# Altium schematic symbol library Module1.SchLib: 68 symbols
Pins are listed as number, name and electrical type; pins without a type are passive.

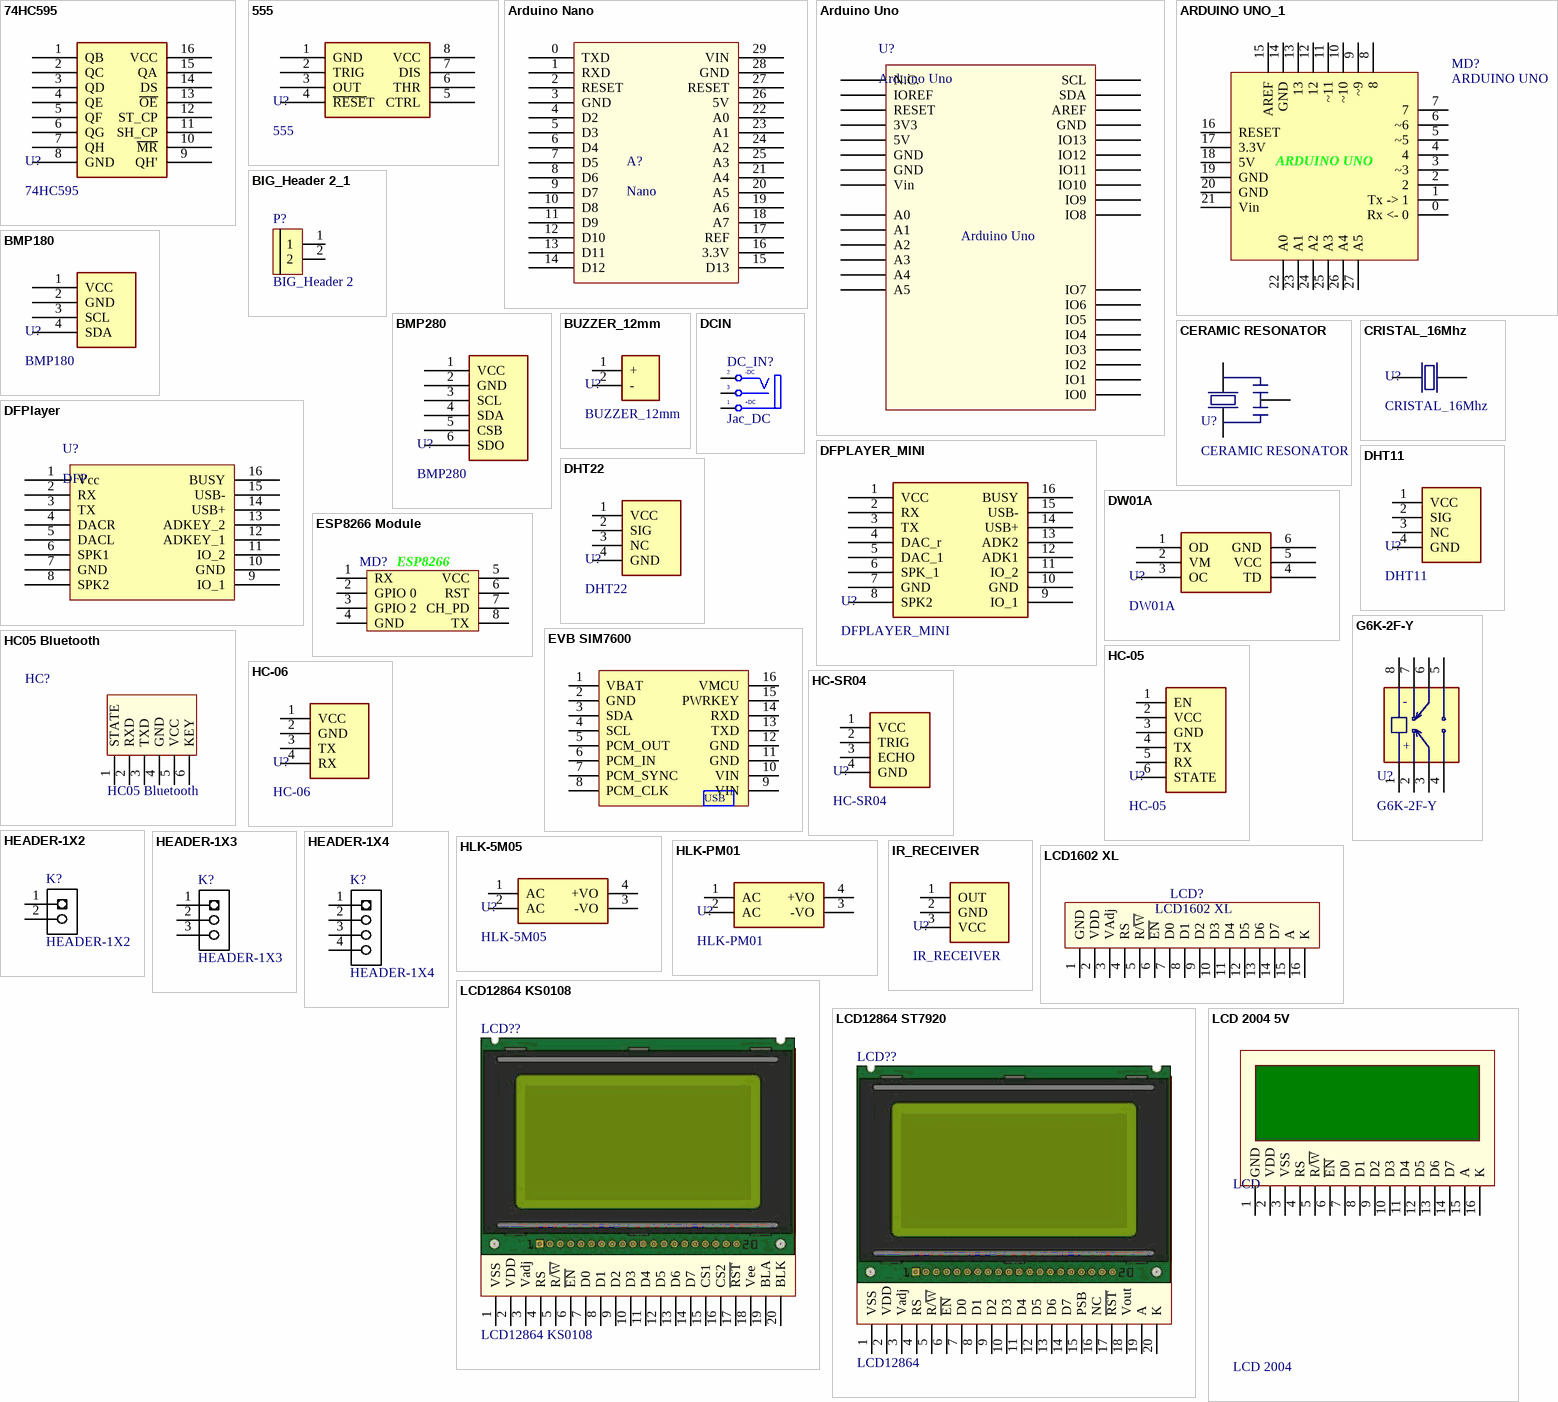
[diagram p0: symbols 74HC595 to LCD 2004 5V]

## 74HC595
designator U?
SHIFT REGISTER 8-BIT DIP-16; ComponentLink1Description: Datasheet; ComponentLink1URL: https://www.ti.com/lit/ds/symlink/sn74hc595.pdf?ts=1673556046554&ref_url=https%253A%252F%252Fwww.ti.com%252Fproduct%252FSN74HC595; JLCPCB PN: C110383
footprint 74HC595 (SHIFT REGISTER 8-BIT DIP-16)
pins: 1 QB, 2 QC, 3 QD, 4 QE, 5 QF, 6 QG, 7 QH, 8 GND, 9 QH', 10 ~{MR}, 11 SH_CP, 12 ST_CP, 13 ~{OE}, 14 DS, 15 QA, 16 VCC

## 555
designator U?
CI TIMER/OSCILATOR 100kHz; ComponentLink1Description: Datasheet; ComponentLink1URL: https://www.ti.com/lit/ds/symlink/ne555.pdf?HQS=dis-mous-null-mousermode-dsf-pf-null-wwe&ts=1678668318661&ref_url=https%253A%252F%252Fwww.mouser.com%252F; JLCPCB PN SMD: C181735; JLCPCB PN DIP: C398063
footprint NE555_PTH
footprint NE555_SMD
pins: 1 GND, 2 TRIG, 3 OUT, 4 ~{RESE}T, 5 CTRL, 6 THR, 7 DIS, 8 VCC

## Arduino Nano
designator A?, comment Nano
footprint Arduino nano (arduino nano)
pins: 0 TXD, 1 RXD, 2 RESET, 3 GND, 4 D2, 5 D3, 6 D4, 7 D5, 8 D6, 9 D7, 10 D8, 11 D9, 12 D10, 13 D11, 14 D12, 15 D13, 16 3.3V, 17 REF, 18 A7, 19 A6, 20 A5, 21 A4, 22 A0, 23 A1, 24 A2, 25 A3, 26 5V, 27 RESET, 28 GND, 29 VIN

## Arduino Uno
designator U?
footprint Arduino Uno
footprint Arduino Uno Shield
pins: 0 IO0, 1 IO1, 2 IO2, 3 IO3, 3V3, 4 IO4, 5 IO5, 5V, 6 IO6, 7 IO7, 8 IO8, 9 IO9, 10 IO10, 11 IO11, 12 IO12, 13 IO13, A0, A1, A2, A3, A4, A5, AREF, GND1 GND, GND2 GND, GND3 GND, IOREF, NC N.C., RESET, SCL, SDA, Vin

## ARDUINO UNO_1
designator MD?, comment ARDUINO UNO
footprint ARDUINO UNO - duplicate
pins: 0 Rx <- 0, 1 Tx -> 1, 2, 3 ~3, 4, 5 ~5, 6 ~6, 7, 8, 9 ~9, 10 ~10, 11 ~11, 12, 13, 14 GND, 15 AREF, 16 RESET, 17 3.3V, 18 5V, 19 GND, 20 GND, 21 Vin, 22 A0, 23 A1, 24 A2, 25 A3, 26 A4, 27 A5

## BIG_Header 2_1
designator P?, comment BIG_Header 2
footprint BIG_Header 2
pins: 1, 2

## BMP180
designator U?
SENSOR ATMOSPHERIC PRESSURE/TEMPERATURE
footprint BMP180
pins: 1 VCC, 2 GND, 3 SCL, 4 SDA

## BMP280
designator U?
SENSOR ATMOSPHERIC PRESSURE/TEMPERATURE/ALTITUDE
footprint BMP280 (SENSOR ATMOSPHERIC PRESSURE/TEMPERATURE/ALTITUDE)
pins: 1 VCC, 2 GND, 3 SCL, 4 SDA, 5 CSB, 6 SDO

## BUZZER_12mm
designator U?
BUZZER MAGNETIC 12MM; Digikey PN: 433-WT-1209T-ND; Mouser PN: 433-WT-1209T-ND; JLCPCB PN: C781866
footprint BUZZER_12mm (BUZZER MAGNETIC 12MM)
pins: 1 +, 2 -

## CERAMIC RESONATOR
designator U?
Generic Ceramic Ressonator 3.2x1.3mm
footprint CERAMIC_RESONATOR
pins: 1 (power), 2 (power), 3 (power)

## CRISTAL_16Mhz
designator U?
CRYSTAL 16MHZ, PTH and SMD; Mouser PN: 449-LFXTAL022786BULK; Digikey PN: 3155-16M20P2/49US-ND
footprint CRISTAL_16Mhz (CRYSTAL 16MHZ PTH)
footprint CRISTAL_16Mhz_SMD
pins: 1 (power), 2 (power)

## DCIN
designator DC_IN?, comment Jac_DC
footprint BGA56x10
pins: 1 T "Tip", 2 TN "Tip Normal (Break Contact)", 3 S (power) "Sleeve (Ground)"
text: -DC; +DC

## DFPlayer
designator U?, comment DFP
DFPlayer
footprint DFPlayer
pins: 1 Vcc, 2 RX, 3 TX, 4 DACR, 5 DACL, 6 SPK1, 7 GND, 8 SPK2, 9 IO_1, 10 GND, 11 IO_2, 12 ADKEY_1, 13 ADKEY_2, 14 USB+, 15 USB-, 16 BUSY

## DFPLAYER_MINI
designator U?
MP3 Module, 3W, 3.3-5V.
footprint DFPLAYER_MINI
pins: 1 VCC, 2 RX, 3 TX, 4 DAC_r, 5 DAC_1, 6 SPK_1, 7 GND, 8 SPK2, 9 IO_1, 10 GND, 11 IO_2, 12 ADK1, 13 ADK2, 14 USB+, 15 USB-, 16 BUSY

## DHT11
designator U?
SENSOR HUMIDITY/TEMPERATURE; Digikey PN: 1528-1228-ND
footprint DHT11 (SENSOR HUMIDITY/TEMPERATURE)
pins: 1 VCC, 2 SIG, 3 NC, 4 GND

## DHT22
designator U?
SENSOR HUMIDITY/TEMPERATURE; Digikey PN: 1528-1228-ND
footprint DHT22_180
footprint DHT22_90
pins: 1 VCC, 2 SIG, 3 NC, 4 GND

## DW01A
designator U?
BATTERY PROTECTION IC  SOT-23-6; ComponentLink1Description: Datasheet; ComponentLink1URL: https://datasheet.lcsc.com/szlcsc/1901091236_PUOLOP-DW01A_C351410.pdf; JLCPCB PN: C2927799
footprint DW01A (BATTERY PROTECTION IC)
pins: 1 OD, 2 VM, 3 OC, 4 TD, 5 VCC, 6 GND

## ESP8266 Module
designator MD?  (value not drawn)
footprint ESP2866 Module
pins: 1 RX, 2 GPIO 0, 3 GPIO 2, 4 GND, 5 VCC, 6 RST, 7 CH_PD, 8 TX
text: ESP8266

## EVB SIM7600
designator U?, comment EVB SIM7600 AHTLAB V100  (value not drawn)
Supplier 1: AHTLAB; Supplier Part Number 1: EVBSIM76XXV100
footprint EVB_SIM7600_AHT
footprint EVB_SIM7600_AHT_MIRROR
pins: 1 VBAT, 2 GND, 3 SDA, 4 SCL, 5 PCM_OUT, 6 PCM_IN, 7 PCM_SYNC, 8 PCM_CLK, 9 VIN, 10 VIN, 11 GND, 12 GND, 13 TXD, 14 RXD, 15 PWRKEY, 16 VMCU
text: USB

## G6K-2F-Y
designator U?
Micro Relé SMD Dual Channel, 5V/12V/24V, 6.5x10mm.
footprint G6K-2F-Y
pins: 1, 2, 3, 4, 5, 6, 7, 8
text: -; +

## HC05 Bluetooth
designator HC?
Bluetooth HC05; Value: Connector 6
footprint HC05 Bluethooth Dung (Connector; Header; 6 Position)
footprint HC05 Bluethooth Nam (Connector; Header; 6 Position)
pins: 1 STATE, 2 RXD, 3 TXD, 4 GND, 5 VCC, 6 KEY

## HC-05
designator U?
BLUETOOTH MODULE, 6 Pins
footprint HC-05 (BLUETOOTH MODULE)
pins: 1 EN, 2 VCC, 3 GND, 4 TX, 5 RX, 6 STATE

## HC-06
designator U?
BLUETOOTH MODULE, 4 Pins.
footprint HC-06 (BLUETOOTH MODULE)
pins: 1 VCC, 2 GND, 3 TX, 4 RX

## HC-SR04
designator U?
ULTRASONIC SENSOR 400CM; Digikey PN: 1568-1421-ND; Mouser PN: 375-HC-SR04
footprint HC-SR04 (ULTRASONIC SENSOR 400CM)
pins: 1 VCC, 2 TRIG, 3 ECHO, 4 GND

## HEADER-1X2
designator K?
REEL: TH; Supplier 1: Digi-Key; Supplier Part Number 1: S1011E-36-ND
footprint HEADER-1X2
pins: 1, 2

## HEADER-1X3
designator K?
Supplier 1: Digi-Key; Supplier Part Number 1: S1011E-36-ND
footprint HEADER-1X3
pins: 1, 2, 3

## HEADER-1X4
designator K?
Supplier 1: Digi-Key; Supplier Part Number 1: S1011E-36-ND
footprint HEADER-1X4
pins: 1, 2, 3, 4

## HLK-5M05
designator U?
Mini Switched Power Supply HLK-5M05 100~240V AC for 5V DC 1A.; JLCPCB: C209907
footprint HLK-5M05
pins: 1 AC, 2 AC, 3 -VO, 4 +VO

## HLK-PM01
designator U?
Mini Switched Power Supply HLK-PM01 100~240V AC for 5V DC 0.6A.; JLCPCB: C209903
footprint HLK-PM01
pins: 1 AC, 2 AC, 3 -VO, 4 +VO

## IR_RECEIVER
designator U?
INFRARED RECEIVER SENSOR; Digikey PN: 1528-157-ND; Mouser PN: 782-TSMP58138; JLCPCB PN: C131209
footprint IR_Receiver (INFRARED RECEIVER SENSOR)
pins: 1 OUT, 2 GND, 3 VCC

## LCD1602 XL
designator LCD?
LCD 1602 Xanh Lá; Ten: Màn hình LCD 1602 Xanh Lá; Ma_Hang: 67HZ; NCC: NSHOP; CHIP: HD44780
footprint LCD1602 with Jump (LCD dipslay 16x2, 16 pin)
footprint LCD1602 (LCD dipslay 16x2, 16 pin)
pins: 1 GND, 2 VDD, 3 VAdj, 4 RS, 5 R/~{W}, 6 ~{EN}, 7 D0, 8 D1, 9 D2, 10 D3, 11 D4, 12 D5, 13 D6, 14 D7, 15 A, 16 K

## LCD12864 KS0108
designator LCD??
LCD Graphic 128x64 KS0108; Value: LCD 128x64
footprint LCD128x64 (LCD Graphic 128x64, 20 pin)
pins: 1 VSS, 2 VDD, 3 Vadj, 4 RS, 5 R/~{W}, 6 ~{EN}, 7 D0, 8 D1, 9 D2, 10 D3, 11 D4, 12 D5, 13 D6, 14 D7, 15 CS1, 16 CS2, 17 ~{RST}, 18 Vee, 19 BLA, 20 BLK

## LCD12864 ST7920
designator LCD??, comment LCD12864
LCD Graphic 128x64 ST7920; Value: LCD 128x64
footprint LCD128x64 (LCD Graphic 128x64, 20 pin)
pins: 1 VSS, 2 VDD, 3 Vadj, 4 RS, 5 R/~{W}, 6 ~{EN}, 7 D0, 8 D1, 9 D2, 10 D3, 11 D4, 12 D5, 13 D6, 14 D7, 15 PSB, 16 NC, 17 ~{RST}, 18 Vout, 19 A, 20 K

## LCD 2004 5V
designator LCD, comment LCD 2004
LCD 2004 5V Xanh Dương; Ten: LCD 2004 Xanh Dương; Ma_Hang: WVEZ; CHIP: HD44780; Don Vi Mua: Nshop
footprint LCD 2004 (LCD dipslay 20x4, 16 pin)
pins: 1 GND, 2 VDD, 3 VSS, 4 RS, 5 R/~{W}, 6 ~{EN}, 7 D0, 8 D1, 9 D2, 10 D3, 11 D4, 12 D5, 13 D6, 14 D7, 15 A, 16 K

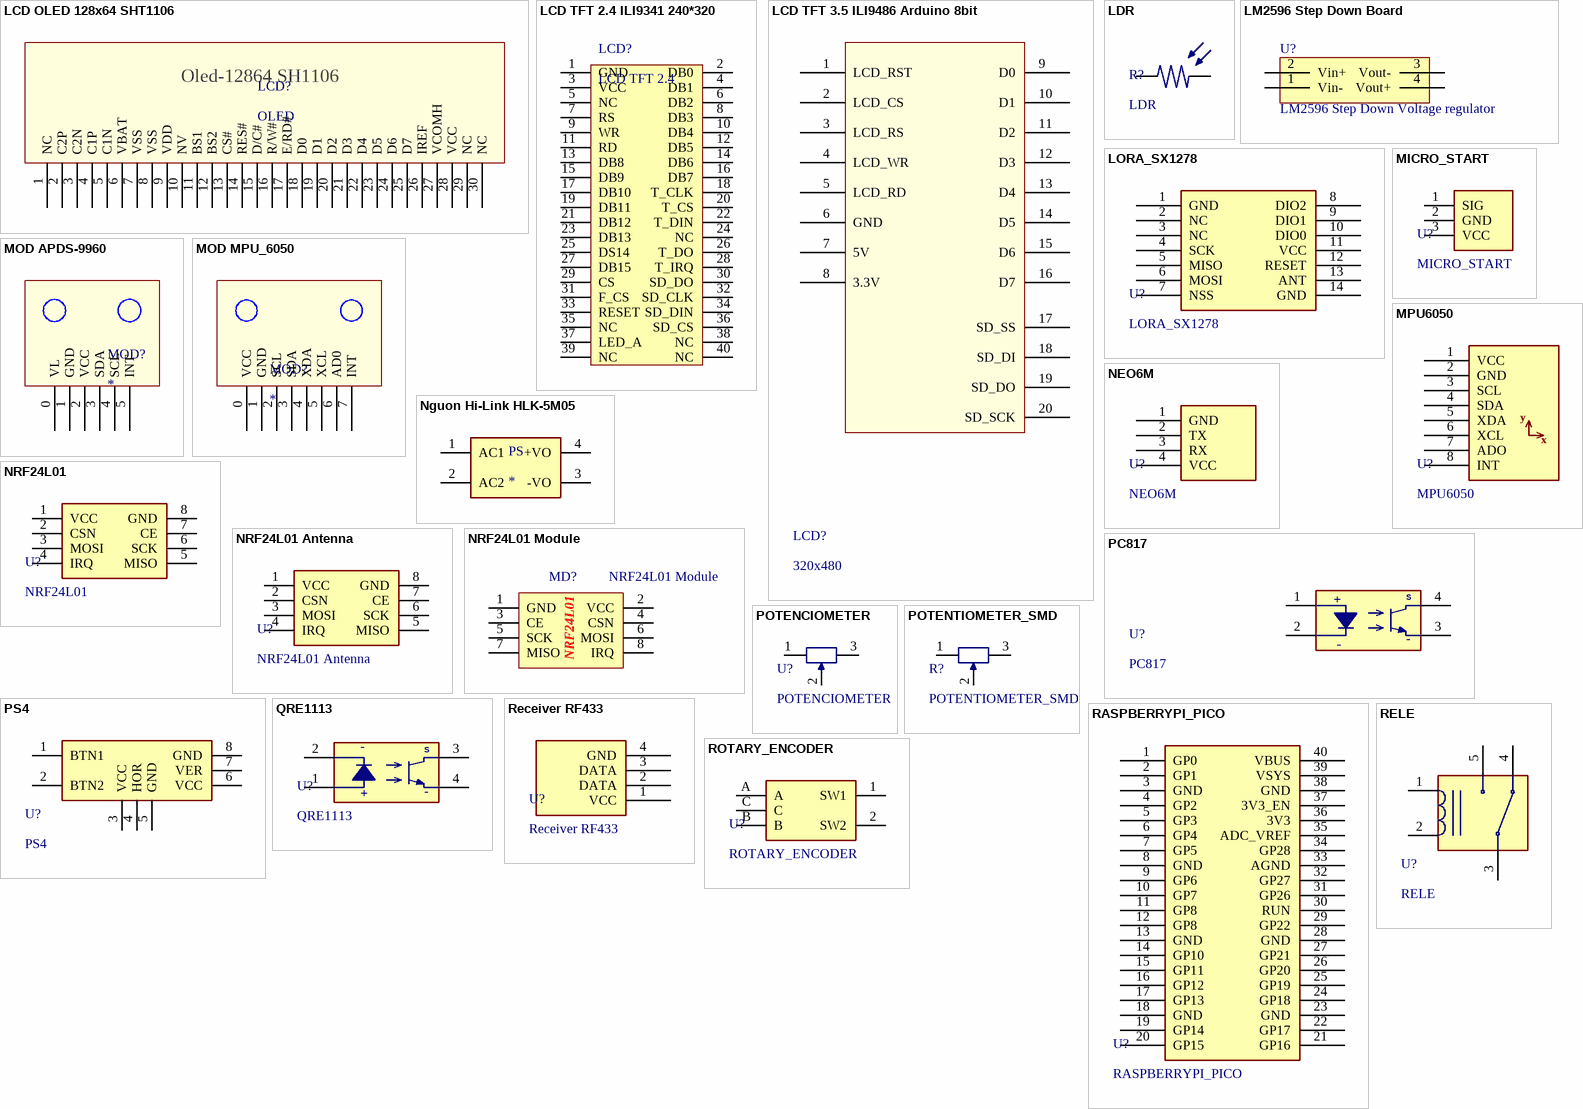
[diagram p1: symbols LCD OLED 128x64 SHT1106 to ROTARY_ENCODER]

## LCD OLED 128x64 SHT1106
designator LCD?, comment OLED
LCD OLED 128x64 SHT1106 only sceen
footprint LCD OLED 128x64 SHT1106
pins: 1 NC, 2 C2P, 3 C2N, 4 C1P, 5 C1N, 6 VBAT, 7 VSS, 8 VSS, 9 VDD, 10 NV, 11 BS1, 12 BS2, 13 CS#, 14 RES#, 15 D/C#, 16 R/W#, 17 E/RD#, 18 D0, 19 D1, 20 D2, 21 D3, 22 D4, 23 D5, 24 D6, 25 D7, 26 IREF, 27 VCOMH, 28 VCC, 29 NC, 30 NC
text: Oled-12864 SH1106

## LCD TFT 2.4 ILI9341 240*320
designator LCD?, comment LCD TFT 2.4
ILI9341 Driver
footprint LCD TFT 2.4 240*320 (Connector; Header; 20x2 Position)
pins: 1 GND, 2 DB0, 3 VCC, 4 DB1, 5 NC, 6 DB2, 7 RS, 8 DB3, 9 WR, 10 DB4, 11 RD, 12 DB5, 13 DB8, 14 DB6, 15 DB9, 16 DB7, 17 DB10, 18 T_CLK, 19 DB11, 20 T_CS, 21 DB12, 22 T_DIN, 23 DB13, 24 NC, 25 DS14, 26 T_DO, 27 DB15, 28 T_IRQ, 29 CS, 30 SD_DO, 31 F_CS, 32 SD_CLK, 33 RESET, 34 SD_DIN, 35 NC, 36 SD_CS, 37 LED_A, 38 NC, 39 NC, 40 NC

## LCD TFT 3.5 ILI9486 Arduino 8bit
designator LCD?, comment 320x480
footprint LCD TFT 3.5 8bit Arduino
pins: 1 LCD_RST, 2 LCD_CS, 3 LCD_RS, 4 LCD_WR, 5 LCD_RD, 6 GND, 7 5V, 8 3.3V, 9 D0, 10 D1, 11 D2, 12 D3, 13 D4, 14 D5, 15 D6, 16 D7, 17 SD_SS, 18 SD_DI, 19 SD_DO, 20 SD_SCK

## LDR
designator R?
LIGHT DEPENDEND RESISTOR/PHOTORESITOR; Digikey PN: PDV-P8107-ND
footprint LDR (LIGHT DEPENDEND RESISTOR/PHOTORESITOR 3mm)
pins: 1, 2

## LM2596 Step Down Board
designator U?, comment LM2596 Step Down Voltage regulator
footprint LM2596 DC-DC
pins: 1 Vin-, 2 Vin+, 3 Vout-, 4 Vout+

## LORA_SX1278
designator U?
footprint LORA_SX1278
footprint LORA_SX1278
pins: 1 GND, 2 NC, 3 NC, 4 SCK, 5 MISO, 6 MOSI, 7 NSS, 8 DIO2, 9 DIO1, 10 DIO0, 11 VCC, 12 RESET, 13 ANT, 14 GND

## MICRO_START
designator U?
Module Start for Robbot Sumo.
footprint MICRO_START
pins: 1 SIG, 2 GND, 3 VCC

## MOD APDS-9960
designator MOD?
footprint MOD APDS-9960
pins: 0 VL, 1 GND, 2 VCC, 3 SDA, 4 SCL, 5 INT

## MOD MPU_6050
designator MOD?
footprint MOD MPU-6050
pins: 0 VCC, 1 GND, 2 SCL, 3 SDA, 4 XDA, 5 XCL, 6 AD0, 7 INT

## MPU6050
designator U?
IMU ACCEL/GYRO 3-AXIS I2C; ComponentLink1Description: Datasheet; ComponentLink1URL: https://invensense.tdk.com/wp-content/uploads/2015/02/MPU-6000-Datasheet1.pdf
footprint MPU6050 (IMU ACCEL/GYRO 3-AXIS I2C)
pins: 1 VCC, 2 GND, 3 SCL, 4 SDA, 5 XDA, 6 XCL, 7 ADO, 8 INT
text: y; x

## NEO6M
designator U?
footprint NEO6M
pins: 1 GND, 2 TX, 3 RX, 4 VCC

## Nguon Hi-Link HLK-5M05
designator PS
AC DC 220V to 5V 5W 5Watt Isolated Switching Step-Down Power Supply Module Converter; MF: Hi-link; MP: HLK-5M05; Availability: Unavailable; SnapEDA_Link: https://www.snapeda.com/parts/HLK-5M05/Hi-link/view-part/2758659/?ref=snap; Price: None; Package: Package Analog Devices; Value: *
footprint Nguon HI-LINK 5M05
pins: 1 AC1, 2 AC2, 3 -VO, 4 +VO

## NRF24L01
designator U?
MÓDULO TRANSCEPTOR RF WIRELESS 2.4GHZ
footprint NRF24L01 (MÓDULO TRANSCEPTOR RF WIRELESS 2.4GHZ)
pins: 1 VCC, 2 CSN, 3 MOSI, 4 IRQ, 5 MISO, 6 SCK, 7 CE, 8 GND

## NRF24L01 Antenna
designator U?
MÓDULO TRANSCEPTOR RF WIRELESS 2.4GHZ W/ ANTENNA
footprint NRF24L01 Antenna (MÓDULO TRANSCEPTOR RF WIRELESS 2.4GHZ W/ ANTENNA)
pins: 1 VCC, 2 CSN, 3 MOSI, 4 IRQ, 5 MISO, 6 SCK, 7 CE, 8 GND

## NRF24L01 Module
designator MD?
footprint NRF24L01
pins: 1 GND, 2 VCC, 3 CE, 4 CSN, 5 SCK, 6 MOSI, 7 MISO, 8 IRQ
text: NRF24L01

## PC817
designator U?
Optocouplers Phototransistor 4 Pins, DIP and SMD.; ComponentLink1Description: Datasheet; ComponentLink1URL: https://www.farnell.com/datasheets/73758.pdf; JLCPCB PN SMD: C3025164; JLCPCB PN DIP: C3008368
footprint PC817_SMD
footprint PC817_DIP
pins: 1 VCC, 2 GND, 3 GND, 4 SIGNAL
text: +; S; -

## POTENCIOMETER
designator U?
footprint POTENTIOMETER
pins: 1, 2, 3

## POTENTIOMETER_SMD
designator R?
footprint POTENCIOMETER_SMD
pins: 1, 2, 3

## PS4
designator U?
footprint PS4
pins: 1 BTN1, 2 BTN2, 3 VCC, 4 HOR, 5 GND, 6 VCC, 7 VER, 8 GND

## QRE1113
designator U?
REFLECTIVE OPTICAL SENSOR SMD; Digikey PN: 512-QRE1113GR; ComponentLink1Description: Datasheet; ComponentLink1URL: https://br.mouser.com/datasheet/2/308/QRE1113_D-1814544.pdf; JLCPCB PN: C232862
footprint QRE1113 (REFLECTIVE OPTICAL SENSOR SMD)
pins: 1 VCC, 2 GND, 3 SIGNAL, 4 GND
text: -; S; +

## RASPBERRYPI_PICO
designator U?
footprint RASPBERRYPI_PICO
pins: 1 GP0, 2 GP1, 3 GND, 4 GP2, 5 GP3, 6 GP4, 7 GP5, 8 GND, 9 GP6, 10 GP7, 11 GP8, 12 GP8, 13 GND, 14 GP10, 15 GP11, 16 GP12, 17 GP13, 18 GND, 19 GP14, 20 GP15, 21 GP16, 22 GP17, 23 GND, 24 GP18, 25 GP19, 26 GP20, 27 GP21, 28 GND, 29 GP22, 30 RUN, 31 GP26, 32 GP27, 33 AGND, 34 GP28, 35 ADC_VREF, 36 3V3, 37 3V3_EN, 38 GND, 39 VSYS, 40 VBUS

## Receiver RF433
designator U?
RF RECEIVER MODULE 433MGZ
footprint Receiver RF433
pins: 1 VCC, 2 DATA, 3 DATA, 4 GND

## RELE
designator U?
Generic Rele PTH 5 Pins.
footprint RELE
pins: 1, 2, 3, 4, 5

## ROTARY_ENCODER
designator U?
JLCPCB PN: C143789
footprint ROTARY_ENCODER
pins: 1 SW1, 2 SW2, A, B, C

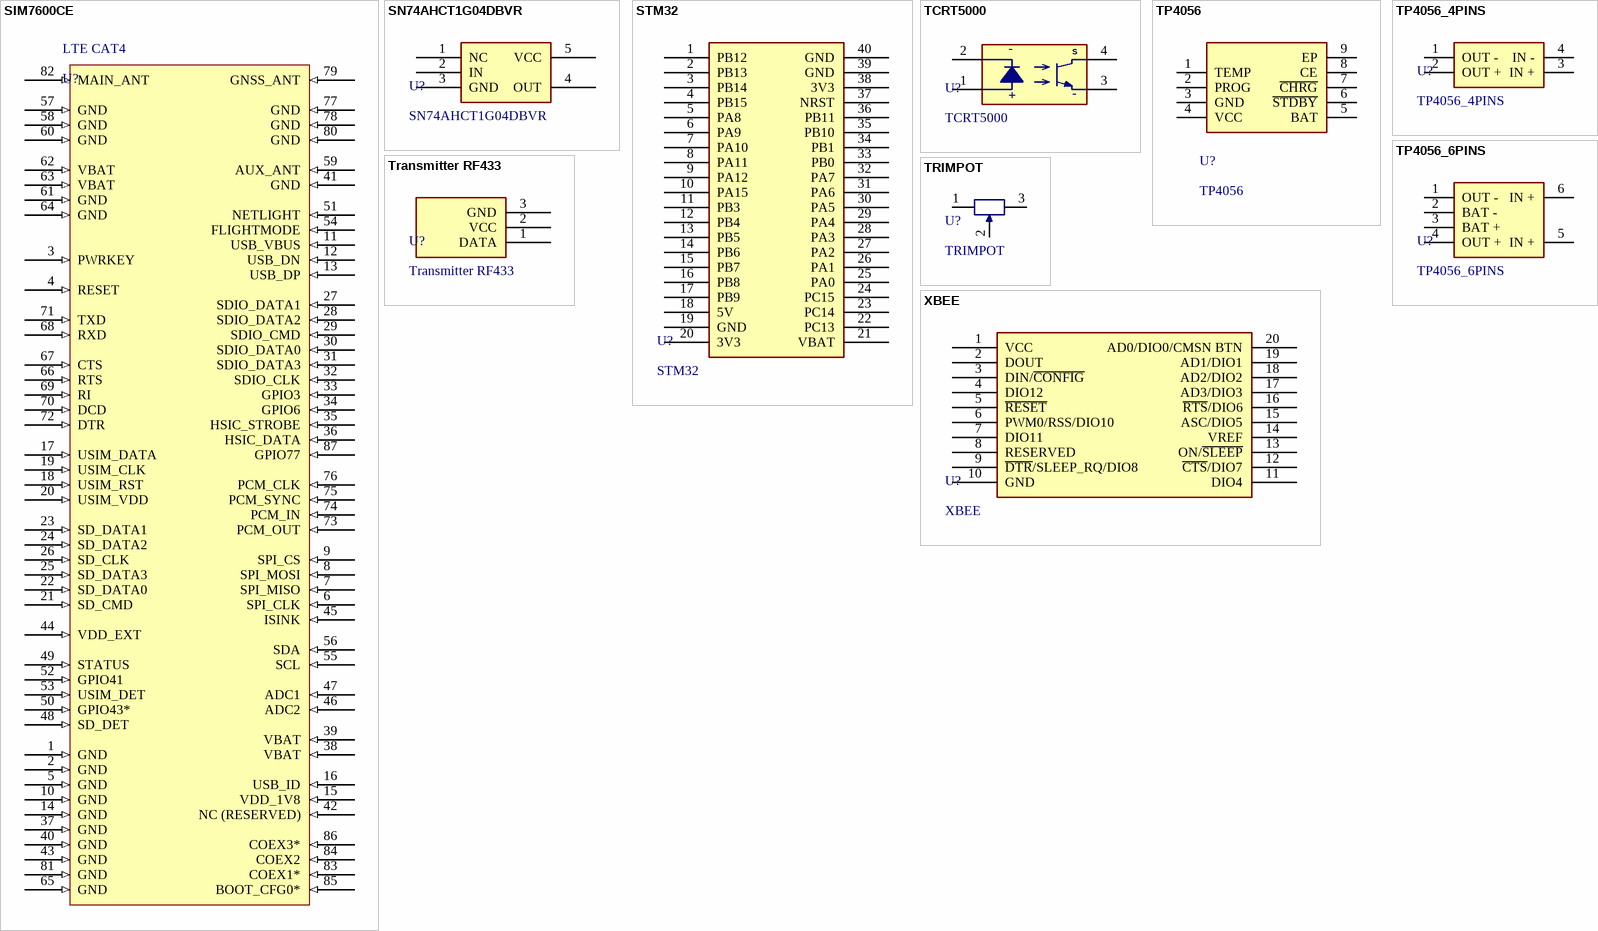
[diagram p2: symbols SIM7600CE to XBEE]

## SIM7600CE
designator LTE CAT4, comment U?
footprint SIM7600CE
pins: 1 GND (in), 2 GND (in), 3 PWRKEY (in), 4 RESET (in), 5 GND (in), 6 SPI_CLK (in), 7 SPI_MISO (in), 8 SPI_MOSI (in), 9 SPI_CS (in), 10 GND (in), 11 USB_VBUS (in), 12 USB_DN (in), 13 USB_DP (in), 14 GND (in), 15 VDD_1V8 (in), 16 USB_ID (in), 17 USIM_DATA (in), 18 USIM_RST (in), 19 USIM_CLK (in), 20 USIM_VDD (in), 21 SD_CMD (in), 22 SD_DATA0 (in), 23 SD_DATA1 (in), 24 SD_DATA2 (in), 25 SD_DATA3 (in), 26 SD_CLK (in), 27 SDIO_DATA1 (in), 28 SDIO_DATA2 (in), 29 SDIO_CMD (in), 30 SDIO_DATA0 (in), 31 SDIO_DATA3 (in), 32 SDIO_CLK (in), 33 GPIO3 (in), 34 GPIO6 (in), 35 HSIC_STROBE (in), 36 HSIC_DATA (in), 37 GND (in), 38 VBAT (in), 39 VBAT (in), 40 GND (in), 41 GND (in), 42 NC (RESERVED) (in), 43 GND (in), 44 VDD_EXT (in), 45 ISINK (in), 46 ADC2 (in), 47 ADC1 (in), 48 SD_DET (in), 49 STATUS (in), 50 GPIO43* (in), 51 NETLIGHT (in), 52 GPIO41 (in), 53 USIM_DET (in), 54 FLIGHTMODE (in), 55 SCL (in), 56 SDA (in), 57 GND (in), 58 GND (in), 59 AUX_ANT (in), 60 GND (in), 61 GND (in), 62 VBAT (in), 63 VBAT (in), 64 GND (in), 65 GND (in), 66 RTS (in), 67 CTS (in), 68 RXD (in), 69 RI (in), 70 DCD (in), 71 TXD (in), 72 DTR (in), 73 PCM_OUT (in), 74 PCM_IN (in), 75 PCM_SYNC (in), 76 PCM_CLK (in), 77 GND (in), 78 GND (in), 79 GNSS_ANT (in), 80 GND (in), 81 GND (in), 82 MAIN_ANT (in), 83 COEX1* (in), 84 COEX2 (in), 85 BOOT_CFG0* (in), 86 COEX3* (in), 87 GPIO77 (in)

## SN74AHCT1G04DBVR
designator U?
CI SINGLE INVERTER GATE, SOT-23-5.; Digikey PN: 296-1112-2-ND; Mouser PN: 595-SN74AHCT1G04DBVR; ComponentLink1Description: Datasheet; ComponentLink1URL: https://www.ti.com/lit/ds/symlink/sn74ahct1g04.pdf?ts=1678680622800&ref_url=https%253A%252F%252Fwww.google.com%252F; JLCPCB PN: C30326
footprint SN74AHCT1G04DBVR
pins: 1 NC, 2 IN, 3 GND, 4 OUT, 5 VCC

## STM32
designator U?
footprint STM32
pins: 1 PB12, 2 PB13, 3 PB14, 4 PB15, 5 PA8, 6 PA9, 7 PA10, 8 PA11, 9 PA12, 10 PA15, 11 PB3, 12 PB4, 13 PB5, 14 PB6, 15 PB7, 16 PB8, 17 PB9, 18 5V, 19 GND, 20 3V3, 21 VBAT, 22 PC13, 23 PC14, 24 PC15, 25 PA0, 26 PA1, 27 PA2, 28 PA3, 29 PA4, 30 PA5, 31 PA6, 32 PA7, 33 PB0, 34 PB1, 35 PB10, 36 PB11, 37 NRST, 38 3V3, 39 GND, 40 GND

## TCRT5000
designator U?
REFLECTIVE OPTICAL SENSOR PTH; Mouser PN: 782-TCRT5000; ComponentLink1Description: Datasheet; ComponentLink1URL: https://br.mouser.com/datasheet/2/427/tcrt5000-1767618.pdf; JLCPCB PN: C2984661
footprint TCRT5000 (REFLECTIVE OPTICAL SENSOR PTH)
pins: 1 VCC, 2 GND, 3 GND, 4 SIGNAL
text: -; S; +

## TP4056
designator U?
CHIP BATTERY CHARGER 1A SOP-8-EP; ComponentLink1Description: Datasheet; ComponentLink1URL: https://dlnmh9ip6v2uc.cloudfront.net/datasheets/Prototyping/TP4056.pdf; JLCPCB PN: C725790
footprint TP4056 (CHIP BATTERY CHARGER)
pins: 1 TEMP, 2 PROG, 3 GND, 4 VCC, 5 BAT, 6 ~{STDBY}, 7 ~{CHRG}, 8 CE, 9 EP

## TP4056_4PINS
designator U?
MODULE BATTERY CHARGER 4 PINS
footprint TP4056_4PINs (MODULE BATTERY CHARGER)
pins: 1 OUT -, 2 OUT +, 3 IN +, 4 IN -

## TP4056_6PINS
designator U?
MODULE BATTERY CHARGER 6 PINS
footprint TP4056_6PINs (MODULE BATTERY CHARGER)
pins: 1 OUT -, 2 BAT -, 3 BAT +, 4 OUT +, 5 IN +, 6 IN +

## Transmitter RF433
designator U?
RF TRANSMITTER MODULE 433MGZ
footprint Transmitter RF433
pins: 1 DATA, 2 VCC, 3 GND

## TRIMPOT
designator U?
footprint TRIMPOT_1
footprint TRIMPOT_2
pins: 1, 2, 3

## XBEE
designator U?
RF TRANSCEIVER MODULE 2.4GHZ; Digikey PN: 602-1891-ND; Mouser PN: 888-XB24CAPIT-001
footprint XBEE (RF TRANSCEIVER MODULE 2.4GHZ)
pins: 1 VCC, 2 DOUT, 3 DIN/~{CONFIG}, 4 DIO12, 5 ~{RESET}, 6 PWM0/RSS/DIO10, 7 DIO11, 8 RESERVED, 9 ~{DTR}/SLEEP_RQ/DIO8, 10 GND, 11 DIO4, 12 ~{CTS}/DIO7, 13 ON/~{SLEEP}, 14 VREF, 15 ASC/DIO5, 16 ~{RTS}/DIO6, 17 AD3/DIO3, 18 AD2/DIO2, 19 AD1/DIO1, 20 AD0/DIO0/CMSN BTN